# EAGLE library part 50223-018 (library con-aces-50223-series)
ACES CONNECTORS 50223 SERIES ACES Connecors 50223
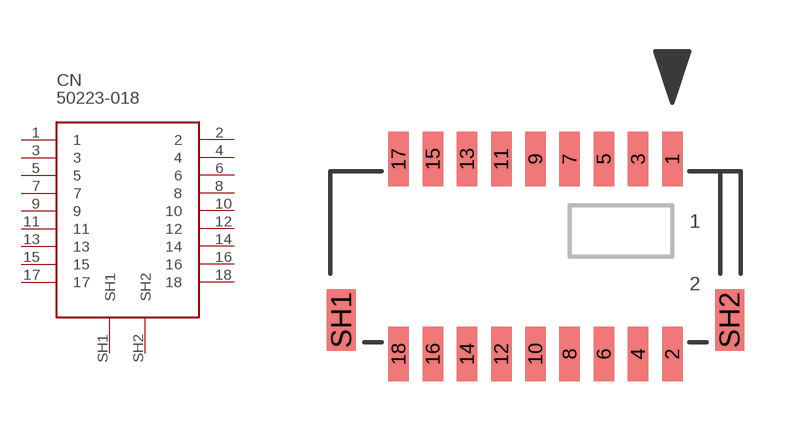
[diagram p4: symbol with the pads of 50223-018; footprint 50223-018]

Designator prefix CN

## 50223-018  [50223-018]
1  1
2  2
3  3
4  4
5  5
6  6
7  7
8  8
9  9
10  10
11  11
12  12
13  13
14  14
15  15
16  16
17  17
18  18
SH1  SH1
SH2  SH2

## Footprint 50223-018 (pad centres in mm)
smd 0.6 x 1.6: 1 4,2.85; 2 4,-2.85; 3 3,2.85; 4 3,-2.85; 5 2,2.85; 6 2,-2.85; 7 1,2.85; 8 1,-2.85; 9 0,2.85; 10 0,-2.85; 11 -1,2.85; 12 -1,-2.85; 13 -2,2.85; 14 -2,-2.85; 15 -3,2.85; 16 -3,-2.85; 17 -4,2.85; 18 -4,-2.85
smd 0.85 x 1.8: SH1 -5.675,-1.85; SH2 5.675,-1.85